# Altium footprint library usb-a 2.0.PcbLib: 1 footprints
Each footprint in its own frame and in the unit in brackets; x right, y up, seen from the top. Pads: shape width x height; smd on the part's side, far side on the other; paste and mask are expansions set on the pad; w line width, h text height; cw(c..) or ccw(c..) is an arc to the next point about the centre after c.
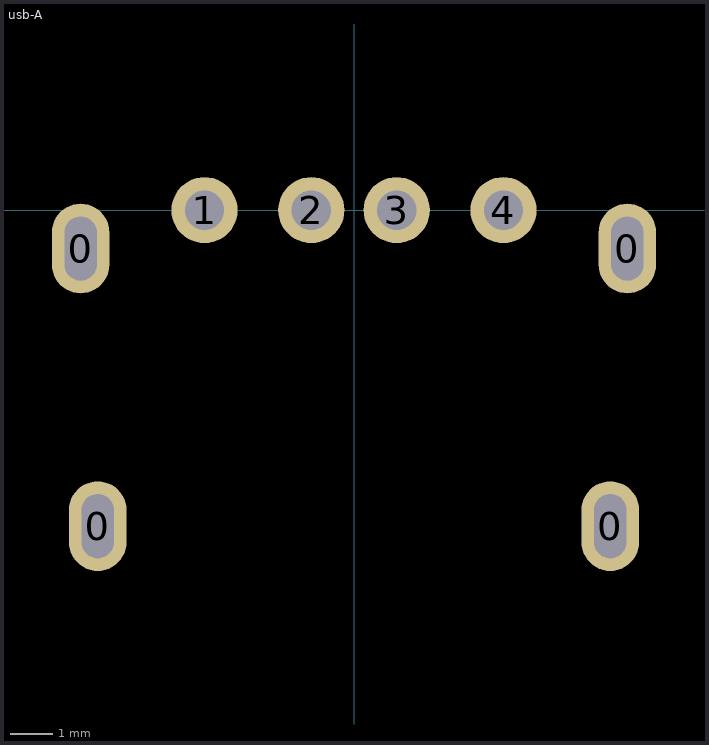
[diagram p0: the footprint, top view; thin cyan lines are the x and y axes]

## usb-A [mm]
pads (8):
  oval 1.35x2.1 hole 0.75 slot 1.5 at 90 deg: 0(-6.4,-0.9) 0(-6,-7.4) 0(6,-7.4) 0(6.4,-0.9)
  round 1.55 hole 0.92: 1(-3.5,0) 2(-1,0) 3(1,0) 4(3.5,0)
3D body "femaleThruHoleUSB.stp": height 7.55, standoff -3.58, extent -7.885,-13.055 7.885,1.39